# Altium footprint library Molex Microfit 2.0 4x2.PcbLib: 1 footprints
Each footprint in its own frame and in the unit in brackets; x right, y up, seen from the top. Pads: shape width x height; smd on the part's side, far side on the other; paste and mask are expansions set on the pad; w line width, h text height; cw(c..) or ccw(c..) is an arc to the next point about the centre after c.
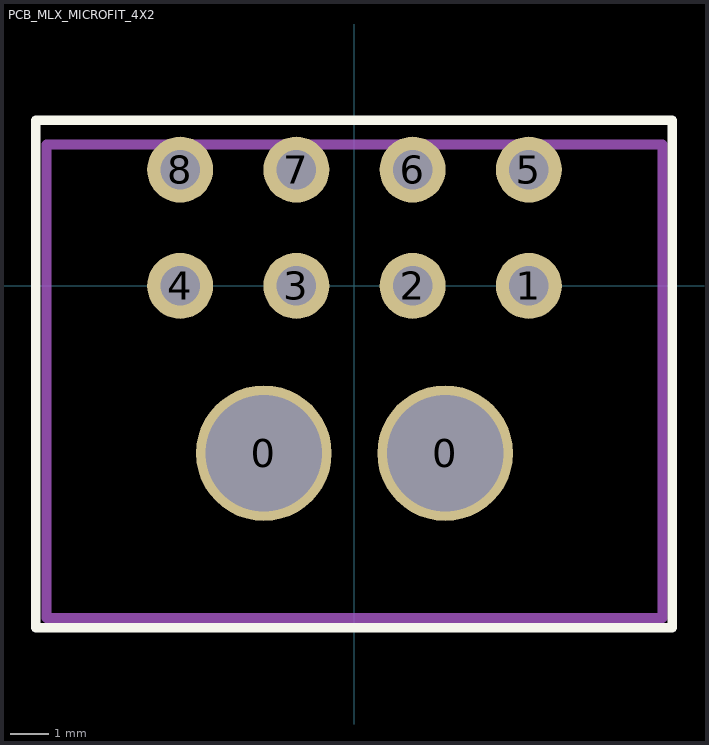
[diagram p0: the footprint, top view; thin cyan lines are the x and y axes]

## PCB_MLX_MICROFIT_4X2 [mm] "Molex MicroFit 4x2 Connector"
height 7.37
pads (10):
  round 3.5 hole 3: 0(-2.34,-4.32) 0(2.34,-4.32)
  round 1.7 hole 1.02: 1(4.5,0) 2(1.5,0) 3(-1.5,0) 4(-4.5,0) 5(4.5,3) 6(1.5,3) 7(-1.5,3) 8(-4.5,3)
Top Overlay:
  lines w0.254: -8.225,-8.825 8.2,-8.825 8.2,4.275 -8.225,4.275 -8.225,-8.825
Mechanical 15:
  lines w0.254: -7.95,-8.575 -7.95,3.65 7.95,3.65 7.95,-8.575 -7.95,-8.575
3D body "430450800.stp": height 8.83, standoff -3.12, extent -8.075,-8.7 8.075,3.54